# Altium footprint library LPON_MODULE.PcbLib: 6 footprints
Each footprint in its own frame and in the unit in brackets; x right, y up, seen from the top. Pads: shape width x height; smd on the part's side, far side on the other; paste and mask are expansions set on the pad; w line width, h text height; cw(c..) or ccw(c..) is an arc to the next point about the centre after c.
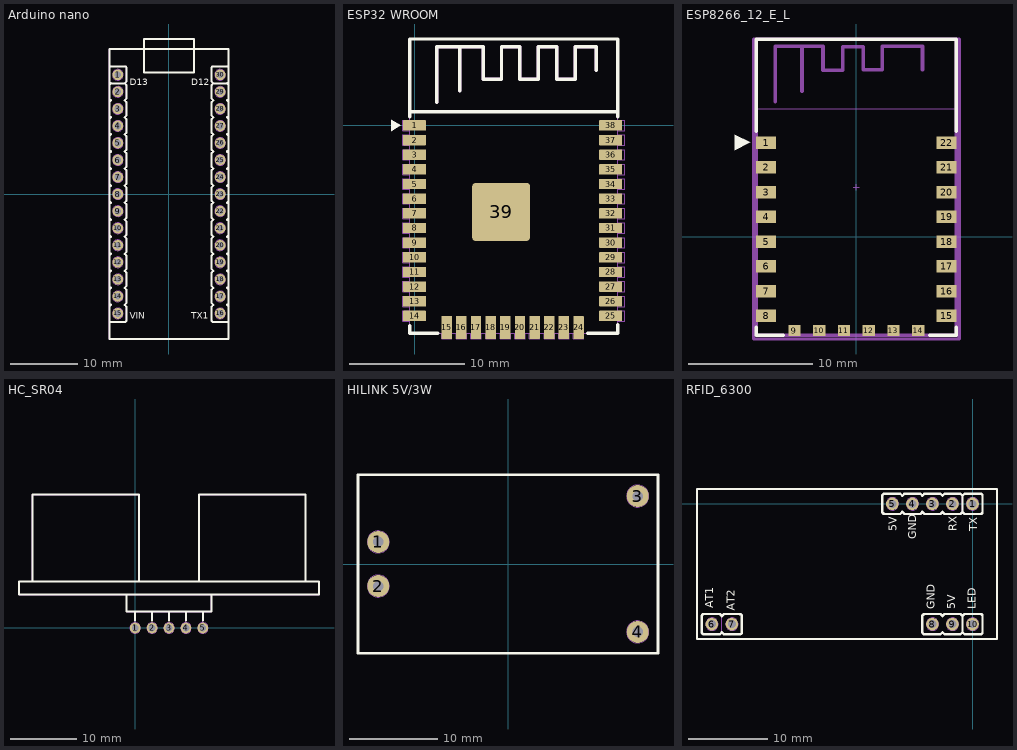
[diagram p0: the footprints below, top view; thin cyan lines are the x and y axes]

## Arduino nano [mm] "Arduino nano 17.78x43.18mm"
height 4.95
pads (30):
  round 1.6 hole 1 mask+0.1: 1(-7.62,17.78) 2(-7.62,15.24) 3(-7.62,12.7) 4(-7.62,10.16) 5(-7.62,7.62) 6(-7.62,5.08) 7(-7.62,2.54) 8(-7.62,0) 9(-7.62,-2.54) 10(-7.62,-5.08) 11(-7.62,-7.62) 12(-7.62,-10.16) 13(-7.62,-12.7) 14(-7.62,-15.24) 15(-7.62,-17.78) 16(7.62,-17.78) 17(7.62,-15.24) 18(7.62,-12.7) 19(7.62,-10.16) 20(7.62,-7.62) 21(7.62,-5.08) 22(7.62,-2.54) 23(7.62,0) 24(7.62,2.54) 25(7.62,5.08) 26(7.62,7.62) 27(7.62,10.16) 28(7.62,12.7) 29(7.62,15.24) 30(7.62,17.78)
Top Overlay:
  drawing of 279 lines, arcs and shapes, not listed
  text "TX1" at 3.302,-18.542 h1
  text "VIN" at -5.842,-18.542 h1
  text "D13" at -5.842,16.256 h1
  text "D12" at 3.302,16.256 h1
Mechanical 2:
  drawing of 326 lines, arcs and shapes, not listed
  text "30" at 7.366,18.288 h1.2
  text "16" at 7.22,-17.2 h1.2
  text "1" at -8.02,17.9 h1.2
  text "15" at -8.02,-17.2 h1.2
  text "D13" at -5.842,17.526 h0.8
  text "VIN" at -6.096,-18.288 h0.8
  text "TX1" at 4.064,-18.288 h0.8
  text "D12" at 4.064,17.526 h0.8
3D body "User Library-arduino_nano.STEP": height 17.1, standoff -1.5, extent -8.9,-21.6 9.1,23.4

## ESP32 WROOM [mm] "ESP32 WROOM"
pads (39):
  rrect10% 2x0.9 smd: 1(0,0) 2(0,-1.27) 3(0,-2.54) 4(0,-3.81) 5(0,-5.08) 6(0,-6.35) 7(0,-7.62) 8(0,-8.89) 9(0,-10.16) 10(0,-11.43) 11(0,-12.7) 12(0,-13.97) 13(0,-15.24) 14(0,-16.51) 25(17,-16.51) 26(17,-15.24) 27(17,-13.97) 28(17,-12.7) 29(17,-11.43) 30(17,-10.16) 31(17,-8.89) 32(17,-7.62) 33(17,-6.35) 34(17,-5.08) 35(17,-3.81) 36(17,-2.54) 37(17,-1.27) 38(17,0)
  rrect10% 0.9x2 smd: 15(2.785,-17.51) 16(4.055,-17.51) 17(5.325,-17.51) 18(6.595,-17.51) 19(7.865,-17.51) 20(9.135,-17.51) 21(10.405,-17.51) 22(11.675,-17.51) 23(12.945,-17.51) 24(14.215,-17.51)
  rrect10% 5x5 smd: 39(7.5,-7.5)
Top Overlay:
  region: -1.2,0 -2,0.5 -2,-0.5
  lines w0.3: -0.4,-17.355 -0.4,-18.015 2,-18.015 ; -0.4,0.745 -0.4,7.49 17.6,7.49 17.6,0.745 ; -0.4,1.19 17.6,1.19 ; 1.935,2 1.935,6.8 5.935,6.8 5.935,4 7.535,4 7.535,6.8 9.135,6.8 9.135,6.4 9.135,4 10.735,4 10.735,6.8 12.335,6.8 12.335,4 13.935,4 13.935,6.8 15.735,6.8 15.735,4.8 ; 3.935,3 3.935,6.8 ; 15,-18.015 17.6,-18.015 17.6,-17.255
Mechanical 2:
  drawing of 167 lines, arcs and shapes, not listed
  text "38" at 17.3,-0.555 h0.8
  text "25" at 17.3,-17.155 h0.8
  text "24" at 13.6,-17.555 h0.8
  text "15" at 2.2,-17.555 h0.8
  text "14" at 0.6,-16.955 h0.8
  text "1" at 0.6,-0.055 h0.8
3D body "esp-wroom-32.stp": height 3, standoff -0.04, extent -0.535,-18.015 17.535,7.525

## ESP8266_12_E_L [mm] "ESP-12 Wi-Fi Module by AI-Thinker"
height 3.2
pads (22):
  rect 1.6x1 smd: 1(-7.3,7.6) 2(-7.3,5.6) 3(-7.3,3.6) 4(-7.3,1.6) 5(-7.3,-0.4) 6(-7.3,-2.4) 7(-7.3,-4.4) 8(-7.3,-6.4) 15(7.3,-6.4) 16(7.3,-4.4) 17(7.3,-2.4) 18(7.3,-0.4) 19(7.3,1.6) 20(7.3,3.6) 21(7.3,5.6) 22(7.3,7.6)
  rect 1x0.9 smd: 9(-5,-7.6) 10(-3,-7.6) 11(-1,-7.6) 12(1,-7.6) 13(3,-7.6) 14(5,-7.6)
Top Overlay:
  region: -8.565,7.618 -9.835,6.983 -9.835,8.253
  lines w0.3: -8.084,-7.316 -8.084,-7.968 -5.932,-7.968 ; -8.084,8.517 -8.084,15.971 8.084,15.971 8.084,8.516 ; 5.932,-7.968 8.084,-7.968 8.084,-7.316
Mechanical 2:
  lines w0.05: -8.127,10.327 8.129,10.327 ; -8.325,-8.275 -8.325,15.971 8.325,15.971 8.325,-8.275 -8.325,-8.275
  lines w0.3: -6.55,10.9 -6.55,15.4 -4.4,15.4 ; -4.4,11.75 -4.4,15.4 ; 5.35,13.5 5.35,15.4 2.1,15.4 2.1,13.5 0.55,13.5 0.55,15.35 -1.1,15.35 -1.1,13.45 -2.7,13.45 -2.7,15.4 -4.4,15.4
Mechanical 13:
  lines w0.051: -8.127,10.327 -8.127,15.982 8.129,15.982 8.129,10.327 -8.127,10.327
  lines w0.254: -8.084,-7.968 -8.084,15.971 8.084,15.971 8.084,-7.968 -8.084,-7.968
  text "ANTENNA AREA" at -6.501,15.423 h0.25
  text "CUTOUT POLYGON" at -6.501,14.915 h0.25
Mechanical 15:
  lines w0.1: -0.254,4.002 0.254,4.002 ; 0,3.748 0,4.256
  lines w0.254: -8.325,-8.275 -8.325,15.971 8.325,15.971 8.325,-8.275 -8.325,-8.275
3D body "ESP-12E.step": height 2.9, standoff -0.05, extent -8,-8 8,16

## HC_SR04 [mm] "HC­SR04 Ultrasonic Sensor 45mmx20mm"
height 21
pads (6):
  round 1.6 hole 1 mask+0.1: 1(0,0) 1(0,0) 2(2.54,0) 3(5.08,0) 4(7.62,0) 5(10.16,0)
Top Overlay:
  lines w0.3: -15.42,7 -15.42,20 0.58,20 0.58,7 ; -1.27,4.98 -1.27,2.46 11.43,2.46 11.43,4.98 ; 0,1.1 0,2.46 ; 2.54,1.1 2.54,2.46 ; 5.08,1.1 5.08,2.46 ; 7.62,1.1 7.62,2.46 ; 9.58,7 9.58,20 25.58,20 25.58,7 ; 10.16,1.1 10.16,2.46 ; -17.42,5 -17.42,7 27.58,7 27.58,5 -17.42,5
Mechanical 1:
  circle w0.05: c10.16,0 r0.8
  circle w0.05: c7.62,0 r0.8
  circle w0.05: c5.08,0 r0.8
  circle w0.05: c2.54,0 r0.8
  circle w0.05: c0,0 r0.8
  lines w0.05: -15.42,7 -15.42,20 0.58,20 0.58,7 ; -1.27,4.98 -1.27,2.46 11.43,2.46 11.43,4.98 ; 0,0.8 0,2.46 ; 2.54,0.8 2.54,2.46 ; 5.08,0.8 5.08,2.46 ; 7.62,0.8 7.62,2.46 ; 9.58,7 9.58,20 25.58,20 25.58,7 ; 10.16,0.8 10.16,2.46 ; -17.42,5 27.58,5 27.58,7 -17.42,7 -17.42,5
  text "GND" at 0.56,2.87 h1.2
  text "OUT" at 3.15,2.78 h1.2
  text "ECHO" at 5.64,2.78 h1.2
  text "TRIG" at 8.13,2.75 h1.2
  text "VCC" at 10.78,2.8 h1.2
  text "5" at 9.83,-0.67 h1.2
  text "1" at -0.18,-0.46 h1.2

## HILINK 5V/3W [mm]
height 15
pads (4):
  round 2.5 hole 1.2: 1(-14.7,2.5) 2(-14.7,-2.5) 3(14.7,7.7) 4(14.7,-7.7)
Top Overlay:
  lines w0.3: -17,-10.1 17,-10.1 17,10.1 -17,10.1 -17,-10.1
Mechanical 2:
  circle w0.05: c14.7,7.7 r1.25
  circle w0.05: c14.7,-7.7 r1.25
  circle w0.05: c-14.7,2.5 r1.25
  circle w0.05: c-14.7,-2.5 r1.25
  lines w0.05: -17,-10.1 17,-10.1 17,10.1 -17,10.1 -17,-10.1
  text "3" at 14.37,7.19 h1
  text "4" at 14.37,-8.18 h1
  text "1" at -14.81,1.99 h1
  text "2" at -15,-3.03 h1
3D body "User Library-hilink.STEP": height 15.01, standoff -5, extent -17,-10.1 17,10.1

## RFID_6300 [mm] "RFID 6300 38*19mm"
pads (10):
  round 1.6 hole 1 mask+0.1: 1(0,0) 2(-2.54,0) 3(-5.08,0) 4(-7.62,0) 5(-10.16,0) 6(-33.02,-15.24) 7(-30.48,-15.24) 8(-5.08,-15.24) 9(-2.54,-15.24) 10(0,-15.24)
Top Overlay:
  lines w0.3: -32.014,-16.52 -34.05,-16.52 cw(c-34.03,-16.26) -34.29,-16.24 -34.29,-14.24 cw(c-34.03,-14.22) -34.05,-13.96 -32.004,-13.96 ; -32.004,-16.51 -31.75,-16.256 -31.75,-16.266 -31.496,-16.52 -29.464,-16.52 -29.464,-16.51 ; -32.004,-13.97 -31.75,-14.224 -31.496,-13.97 ; -31.496,-13.96 -29.464,-13.96 -29.464,-13.97 ; -29.49,-16.52 ccw(c-29.49,-16.24) -29.21,-16.24 -29.21,-14.24 ccw(c-29.49,-14.24) -29.49,-13.96 ; -11.176,-1.27 -11.176,-1.28 -9.144,-1.28 -8.89,-1.026 -8.89,-1.016 -8.636,-1.27 ; -11.176,1.27 -11.176,1.28 -9.144,1.28 ; -11.15,-1.28 cw(c-11.15,-1) -11.43,-1 -11.43,1 cw(c-11.15,1) -11.15,1.28 ; -9.144,1.27 -8.89,1.016 -8.636,1.27 ; -8.636,-1.28 -6.604,-1.28 -6.35,-1.026 -6.35,-1.016 -6.096,-1.27 ; -8.636,1.28 -6.604,1.28 ; -6.604,1.27 -6.35,1.016 -6.096,1.27 ; -6.096,-16.51 -6.096,-16.52 -4.064,-16.52 ; -6.096,-13.97 -6.096,-13.96 -4.064,-13.96 -3.81,-14.214 -3.81,-14.224 -3.556,-13.97 ; -6.096,-1.28 -6.096,-1.27 ; -6.096,1.28 -4.05,1.28 ; -6.07,-16.52 cw(c-6.07,-16.24) -6.35,-16.24 -6.35,-14.24 cw(c-6.07,-14.24) -6.07,-13.96 ; -4.064,-16.51 -3.81,-16.256 -3.556,-16.51 ; -4.064,-1.27 -3.81,-1.016 -3.556,-1.27 -3.556,-1.28 -1.524,-1.28 -1.27,-1.026 -1.27,-1.016 ; -4.064,1.27 -3.81,1.016 -3.556,1.27 -3.556,1.28 -1.524,1.28 ; -4.05,-1.28 -6.086,-1.28 -6.096,-1.27 ; -3.556,-16.52 -1.524,-16.52 ; -3.556,-13.96 -1.524,-13.96 -1.27,-14.214 -1.27,-14.224 ; -1.524,-16.51 -1.27,-16.256 ; -1.524,1.27 -1.27,1.016 ; -1.016,-16.52 1.03,-16.52 ccw(c1.01,-16.26) 1.27,-16.24 1.27,-14.24 ccw(c1.01,-14.22) 1.03,-13.96 -1.006,-13.96 -1.016,-13.97 ; -1.016,-16.51 -1.27,-16.256 ; -1.016,-13.96 -1.016,-13.97 ; -1.016,-1.28 -1.016,-1.27 ; -1.016,1.27 -1.27,1.016 ; -1.016,1.28 1.03,1.28 cw(c1.01,1.02) 1.27,1 1.27,-1 cw(c1.01,-1.02) 1.03,-1.28 -1.006,-1.28 -1.016,-1.27 ; -1.27,-16.256 -1.27,-14.224 ; -1.27,-14.224 -1.016,-13.97 ; -1.27,-1.016 -1.27,1.016 ; -1.27,-1.016 -1.016,-1.27 ; -34.9,-17.12 3.1,-17.12 3.1,1.88 -34.9,1.88 -34.9,-17.12
  text "LED" at 0.4,-13.34 h1
  text "5V" at -2.2,-13.34 h1
  text "GND" at -4.8,-13.34 h1
  text "AT2" at -30.12,-13.54 h1
  text "AT1" at -32.82,-13.207 h1
  text "5V" at -9.6,-3.5 h1
  text "GND" at -7.1,-4.5 h1
  text "RX" at -2,-3.5 h1
  text "TX" at 0.6,-3.5 h1
Mechanical 2:
  circle w0.05: c-5.08,0 r0.8
  circle w0.05: c-7.62,0 r0.8
  circle w0.05: c-2.54,0 r0.8
  circle w0.05: c-10.16,0 r0.8
  circle w0.05: c0,0 r0.8
  circle w0.05: c0,0 r0.8
  circle w0.05: c0,-15.24 r0.8
  circle w0.05: c-5.08,-15.24 r0.8
  circle w0.05: c-2.54,-15.24 r0.8
  circle w0.05: c-30.48,-15.24 r0.8
  circle w0.05: c-33.02,-15.24 r0.8
  lines w0.05: -32.014,-16.52 -34.05,-16.52 cw(c-34.03,-16.26) -34.29,-16.24 -34.29,-14.24 cw(c-34.03,-14.22) -34.05,-13.96 -32.004,-13.96 ; -32.004,-16.51 -31.75,-16.256 -31.75,-16.266 ; -32.004,-13.97 -31.75,-14.224 ; -31.496,-13.97 -31.75,-14.224 ; -31.496,-13.96 -29.464,-13.96 -29.464,-13.97 ; -29.49,-16.52 ccw(c-29.49,-16.24) -29.21,-16.24 -29.21,-14.24 ccw(c-29.49,-14.24) -29.49,-13.96 ; -29.464,-16.51 -29.464,-16.52 -31.496,-16.52 -31.75,-16.266 ; -11.176,-1.27 -11.176,-1.28 -9.144,-1.28 -8.89,-1.026 -8.89,-1.016 -8.636,-1.27 ; -11.176,1.27 -11.176,1.28 -9.144,1.28 ; -11.15,-1.28 cw(c-11.15,-1) -11.43,-1 -11.43,1 cw(c-11.15,1) -11.15,1.28 ; -9.144,1.27 -8.89,1.016 -8.636,1.27 ; -8.636,-1.28 -6.604,-1.28 -6.35,-1.026 -6.35,-1.016 -6.096,-1.27 ; -8.636,1.28 -6.604,1.28 ; -6.604,1.27 -6.35,1.016 -6.096,1.27 ; -6.096,-16.51 -6.096,-16.52 -4.064,-16.52 ; -6.096,-13.97 -6.096,-13.96 -4.064,-13.96 -3.81,-14.214 -3.81,-14.224 -3.556,-13.97 ; -6.096,-1.28 -6.096,-1.27 ; -6.096,1.28 -4.05,1.28 ; -6.07,-16.52 cw(c-6.07,-16.24) -6.35,-16.24 -6.35,-14.24 cw(c-6.07,-14.24) -6.07,-13.96 ; -4.064,-16.51 -3.81,-16.256 -3.556,-16.51 ; -4.064,-1.27 -3.81,-1.016 -3.556,-1.27 -3.556,-1.28 -1.524,-1.28 -1.27,-1.026 -1.27,-1.016 ; -4.064,1.27 -3.81,1.016 -3.556,1.27 -3.556,1.28 -1.524,1.28 ; -4.05,-1.28 -6.086,-1.28 -6.096,-1.27 ; -3.556,-16.52 -1.524,-16.52 ; -3.556,-13.96 -1.524,-13.96 -1.27,-14.214 ; -1.524,-16.51 -1.27,-16.256 ; -1.524,1.27 -1.27,1.016 ; -1.016,-16.52 1.03,-16.52 ccw(c1.01,-16.26) 1.27,-16.24 1.27,-14.24 ccw(c1.01,-14.22) 1.03,-13.96 -1.006,-13.96 -1.016,-13.97 ; -1.016,-16.51 -1.27,-16.256 ; -1.016,-13.96 -1.016,-13.97 ; -1.016,-1.28 -1.016,-1.27 ; -1.016,1.27 -1.27,1.016 ; -1.016,1.28 1.03,1.28 cw(c1.01,1.02) 1.27,1 1.27,-1 cw(c1.01,-1.02) 1.03,-1.28 -1.006,-1.28 -1.016,-1.27 ; -31.75,-16.266 -31.75,-14.224 ; -1.27,-16.256 -1.27,-14.214 ; -1.27,-14.214 -1.27,-14.224 -1.016,-13.97 ; -1.27,-1.016 -1.016,-1.27 ; -1.27,-1.016 -1.27,1.016 ; -34.9,-17.12 -34.9,1.88 3.1,1.88 3.1,-17.12 -34.9,-17.12
  text "5" at -10.4,-0.3 h1.2
  text "1" at -0.3,-0.4 h1.2
  text "1" at -0.2,-15.44 h1.2
  text "3" at -5.3,-15.64 h1.2
  text "1" at -33.274,-15.494 h1.2
  text "2" at -30.734,-15.494 h1.2
3D body "Header 1x5.STEP": height 1.5, standoff -10.1, extent -11.43,-1.27 1.27,1.27
3D body "Header 1x3.STEP": height 1.5, standoff -10.1, extent -6.35,-16.51 1.27,-13.97
3D body "Header 1x2.STEP": height 1.5, standoff -10.1, extent -33.57,-17.09 -28.49,-14.55
3D body: height 1.5, standoff 0, extent -34.9,-17.12 3.1,1.88